# Altium integrated library 22284085.IntLib: 1 symbol
Pins are listed as number, name and electrical type; pins without a type are passive.

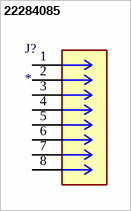
[diagram p0: symbol 22284085]

## 22284085
designator J?
MP: 22284085; Package: None; Price: None; Value: *; Availability: Unavailable
footprint CONN_SD-42375-001_M295_08_MOL
pins: 1, 2, 3, 4, 5, 6, 7, 8